# Altium footprint library MC33493_UHF_TX.PCBLIB: 1 footprints
Each footprint in its own frame and in the unit in brackets; x right, y up, seen from the top. Pads: shape width x height; smd on the part's side, far side on the other; paste and mask are expansions set on the pad; w line width, h text height; cw(c..) or ccw(c..) is an arc to the next point about the centre after c.
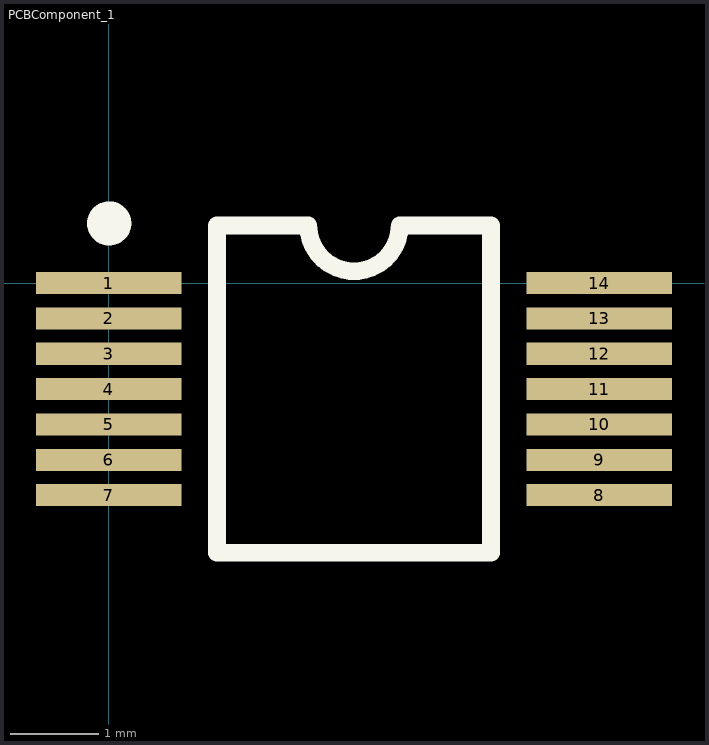
[diagram p0: the footprint, top view; thin cyan lines are the x and y axes]

## PCBComponent_1 [mm]
pads (14):
  rect 1.65x0.25 smd: 1(0,0) 2(0,-0.4) 3(0,-0.8) 4(0,-1.2) 5(0,-1.6) 6(0,-2) 7(0,-2.4) 8(5.55,-2.4) 9(5.55,-2) 10(5.55,-1.6) 11(5.55,-1.2) 12(5.55,-0.8) 13(5.55,-0.4) 14(5.55,0)
Top Overlay:
  circle w0.25: c0.006,0.675 r0.125
  lines w0.2: 1.225,-3.05 4.325,-3.05 4.325,0.65 3.292,0.65 cw(c2.775,0.65) 2.258,0.65 1.225,0.65 1.225,-3.05